# Altium schematic symbol library Dien Tro.SchLib: 12 symbols
Pins are listed as number, name and electrical type; pins without a type are passive.

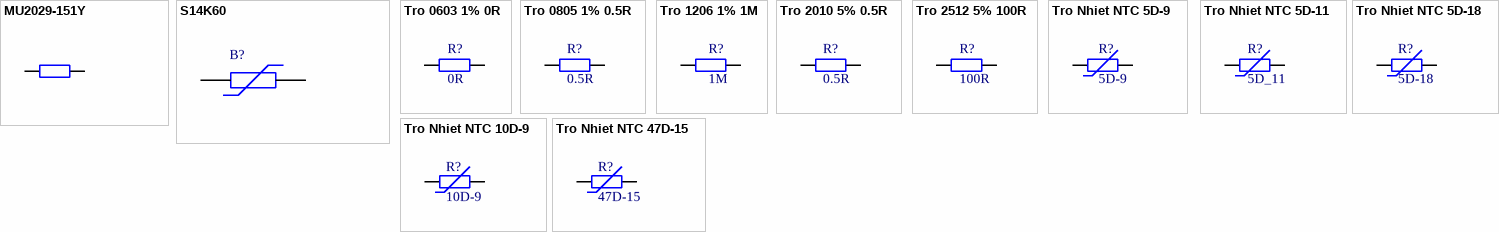
[diagram p0: symbols MU2029-151Y to Tro Nhiet NTC 47D-15]

## MU2029-151Y
designator B?
150 Ohms @ 100 MHz 1 Power, Signal Line Ferrite Bead 0805 (2012 Metric) 800mA 200mOhm; Manufacturer_Name: Bourns; Geometry.Height: 1.1mm; Manufacturer_Part_Number: MU2029-151Y; Mouser Part Number: 652-MU2029-151Y; Mouser Price/Stock: https://www.mouser.co.uk/ProductDetail/Bourns/MU2029-151Y?qs=9FzDyaD7ZFCqd2lEExIVWQ%3D%3D; Arrow Part Number: MU2029-151Y; Arrow Price/Stock: https://www.arrow.com/en/products/mu2029-151y/bourns; Mouser Testing Part Number: *; Mouser Testing Price/Stock: *; Datasheet Link: https://www.bourns.com/docs/Product-Datasheets/mgmumz.pdf
footprint MU2029151Y
pins: 1, 2

## S14K60
designator B?
Varistors 60 VAC  17J 165V-CL   4500A-PK; Manufacturer_Name: TDK; Geometry.Height: 18.5mm; Manufacturer_Part_Number: S14K60; Mouser Part Number: *; Mouser Price/Stock: *; Arrow Part Number: *; Arrow Price/Stock: *; Mouser Testing Part Number: *; Mouser Testing Price/Stock: *; Datasheet Link: https://www.tdk-electronics.tdk.com/inf/70/db/var/SIOV_Leaded_StandarD.pdf?ref_disty=digikey
footprint S14K60
footprint S14K60
footprint S14K60
pins: 1, 2

## Tro 0603 1% 0R
designator R?, comment 0R
Dán; Don_Vi: Con; So_Chan: 2; Ten_Linh_Kien: Trở 0603 1% 0R; Ma_Hang: MH005792; Chung_Loai: Dán; Kieu_Chan: *
footprint tro smd 0603 (Chip Capacitor, 2-Leads, Body 1,60x0,80mm, IPC Medium Density)
pins: 1, 2

## Tro 0805 1% 0.5R
designator R?, comment 0.5R
Dán; Don_Vi: Con; So_Chan: 2; Ten_Linh_Kien: Trở 0805 1% 0.5R; Ma_Hang: MH005465; Chung_Loai: Dán; Kieu_Chan: *
footprint tro smd 0805
pins: 1, 2

## Tro 1206 1% 1M
designator R?, comment 1M
Dán; Don_Vi: Con; So_Chan: 2; Ten_Linh_Kien: Trở 1206 1% 1M; Ma_Hang: MH005881; Chung_Loai: Dán; Kieu_Chan: *
footprint tro smd 1206
pins: 1, 2

## Tro 2010 5% 0.5R
designator R?, comment 0.5R
Dán; Don_Vi: Con; So_Chan: 2; Ten_Linh_Kien: Trở 2010 5% R500-0.5R; Ma_Hang: MH003430; Chung_Loai: Dán; Kieu_Chan: *
footprint tro smd 2010
pins: 1, 2

## Tro 2512 5% 100R
designator R?, comment 100R
Dán; Don_Vi: Con; So_Chan: 2; Ten_Linh_Kien: Trở 2512 5% 101-100R; Ma_Hang: MH007974; Chung_Loai: Dán; Kieu_Chan: *
footprint tro smd 2512
pins: 1, 2

## Tro Nhiet NTC 5D-9
designator R?, comment 5D-9
Cắm; So_Chan: 2; Don_Vi: Con; Ten_Linh_Kien: Điện Trở Nhiệt NTC 5D-9; Ma_Hang: MH005857; Chung_Loai: Cắm; Kieu_Chan: *
footprint tro nhiet d-9
pins: 1, 2

## Tro Nhiet NTC 5D-11
designator R?, comment 5D_11
Cắm; Don_Vi: Con; So_Chan: 2; Ten_Linh_Kien: Điện Trở Nhiệt NTC 5D-11; Ma_Hang: MH007999; Chung_Loai: Cắm; Kieu_Chan: *
footprint tro nhiet d11
pins: 1, 2

## Tro Nhiet NTC 5D-18
designator R?, comment 5D-18
Cắm; So_Chan: 2; Ten_Linh_Kien: Điện trở nhiệt NTC 5D-18; Don_Vi: Con; Ma_Hang: MH00881124; Chung_Loai: Cắm; Kieu_Chan: *
footprint tro nhiet d18
pins: 1, 2

## Tro Nhiet NTC 10D-9
designator R?, comment 10D-9
Cắm; So_Chan: 2; Don_Vi: Con; Ten_Linh_Kien: Điện trở nhiệt NTC 10D-9; Ma_Hang: MH000922; Chung_Loai: Cắm; Kieu_Chan: *
footprint tro nhiet d-9
pins: 1, 2

## Tro Nhiet NTC 47D-15
designator R?, comment 47D-15
Cắm; Don_Vi: Con; So_Chan: 2; Ten_Linh_Kien: Điện Trở Nhiệt NTC 47D-15; Ma_Hang: MH005858; Chung_Loai: Cắm; Kieu_Chan: *
footprint tro nhiet d15
pins: 1, 2